# Altium integrated library TI Power Management Digital Power Control.IntLib: 6 symbols
Pins are listed as number, name and electrical type; pins without a type are passive.

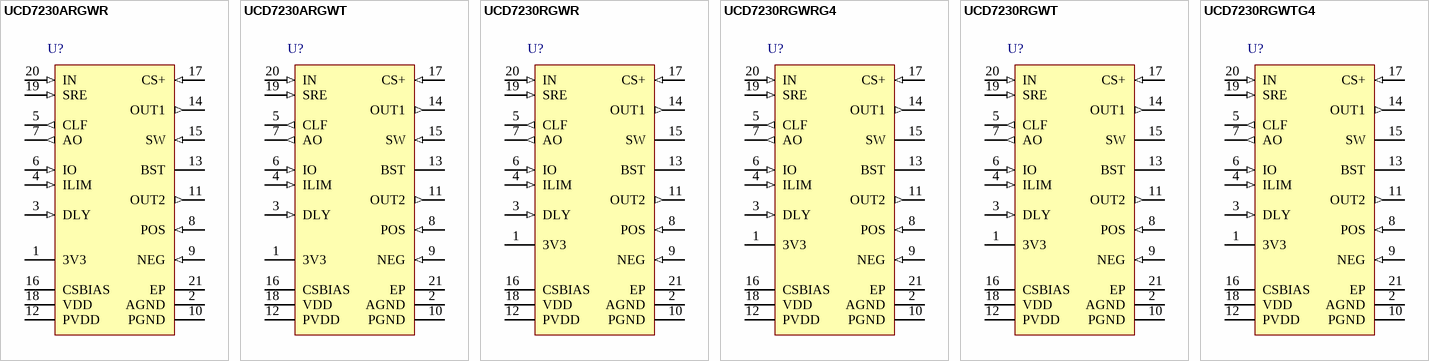
[diagram p0: symbols UCD7230ARGWR to UCD7230RGWTG4]

## UCD7230ARGWR
designator U?
Digital Power Compatible Synchronous Buck Driver, -40 to 105 degC, 20-pin VQFN (RGW), Green (RoHS & no Sb/Br); Manufacturer: Texas Instruments; PartNumber: UCD7230ARGWR; Driver Configuration: Dual; Input Threshold: CMOS, TTL; No. of Outputs: 1; Peak Output Current(A): 4; Prop Delay(ns): 30; SubFamily: Digital Power Control Driver; VCC(Max)(V): 15; VCC(Min)(V): 4.5; DatasheetVersion: SLUS995; PackageVersion: revC, Jul-2011; PackageReference: RGW20-3150X3150TP; PackageDescription: 20-Pin Plastic Quad Flat No-Lead, 5 x 5 mm Body, 0.65 mm Pitch, 3.15 x 3.15 mm Exposed Pad; Supplier 1: Digi-Key; Supplier Part Number 1: 296-25543-2-ND; Supplier 2: Digi-Key; Supplier Part Number 2: 296-25543-1-ND; Supplier 3: Digi-Key; Supplier Part Number 3: 296-25543-6-ND; Supplier 4: Newark; Supplier Part Number 4: 64R0821; Supplier 5: Mouser; Supplier Part Number 5: 595-UCD7230ARGWR; Mounting Technology: Surface Mount; Code_JEDEC: MO-220; ComponentLink1Description: Datasheet; ComponentLink1URL: http://www.ti.com/general/docs/lit/getliterature.tsp?genericPartNumber=UCD7230A&fileType=pdf
footprint RGW20-3150X3150TP (QFN, 20-Leads, Body 5x5mm, Pitch 0.65mm, Thermal Pad 3.15x3.15mm, TI Recommended)
pins: 1 3V3 (power) "Regulated 3.3-V rail. The onboard linear voltage regulator is capable of sourcing up to 10 mA of current. Bypass with 0.22-mF ceramic capacitance from this pin to analog ground, AGND.", 2 AGND (power) "Analog ground return.", 3 DLY (in) "Requires a resistor to AGND for setting the current sense blanking time for both the high-side and low-side current sense comparators. The value of this resistor in conjunction with the resistor in series with the CS+ pin (See Datasheet)", 4 ILIM (in) "Output current limit threshold set pin. The output current threshold is 1/10th of the value set on this pin. If left floating the voltage on this pin is 0.55 V. The voltage on the ILIM pin can range from 0.25 V to 1V to set (See Datasheet)", 5 CLF (out) "Current Limit Flag. The CLF signal is a 3.3-V digital output which is latched high after an over current event, triggered by either of the two current sense comparators and reset after two rising edges received on the IN pin.(See Datasheet)", 6 IO (in) "Sets the current sense linear amplifier “Zero” output level. The default value is 0.6 V which allows negative current measurement.", 7 AO (out) "Current sense linear amplifier output. The output voltage level on this pin represents the average output current. Any value below the level on the I0 pin represents negative output current.", 8 POS (in) "Non-inverting input of the output current sense amplifier and current limit comparator.", 9 NEG (in) "Inverting input of the output current sense amplifier and current limit comparator.", 10 PGND (power) "Power ground return. This pin should be connected close to the source of the low-side synchronous rectifier MOSFET.", 11 OUT2 (out) "The low-side high-current TrueDrive driver output. Drives the gate of the low-side synchronous MOSFET between PVDD and PGND.", 12 PVDD (power) "Supply pin provides power for the output drivers. It is not connected internally to the VDD supply rail. The bypass capacitor for this pin should be returned to PGND.", 13 BST "Floating OUT1 driver supply powered by an external Schottky diode from the PVDD pin during the synchronous MOSFET on time.", 14 OUT1 (out) "The high-side high-current TrueDrive driver output. Drives the gate of the high-side buck MOSFET between SW and BST.", 15 SW (in) "OUT1 gate drive return and square wave input to output inductor.", 16 CSBIAS (power) "Supply pin for the high-side current sense comparator.", 17 CS+ (in) "Non-inverting Input for the high side current sense comparator. A resistor connected between this pin and the high side MOSFET drain, in conjunction with the DLY resistor sets the high-side current limit threshold.", 18 VDD (power) "Supply input pin to power the internal circuitry except the driver outputs. The UCD7230 accepts an input range of 4.5 V to 15.5 V.", 19 SRE (in) "Synchronous Rectifier Enable. The SRE pin is a high impedance digital input capable of accepting 3.3-V logic level signals, used to disable the synchronous rectifier switch. The synchronous rectifier is disabled when this (See Datasheet)", 20 IN (in) "The IN pin is a high impedance digital input capable of accepting 3.3-V logic level signals up to 2 MHz. A Schmitt trigger input comparator desensitizes this pin from external noise.", 21 EP (power) "Thermal pad. Connect directly to AGND for thermal performance and EMI reduction."

## UCD7230ARGWT
designator U?
Digital Power Compatible Synchronous Buck Driver, -40 to 105 degC, 20-pin VQFN (RGW), Green (RoHS & no Sb/Br); Manufacturer: Texas Instruments; PartNumber: UCD7230ARGWT; Driver Configuration: Dual; Input Threshold: CMOS, TTL; No. of Outputs: 1; Peak Output Current(A): 4; Prop Delay(ns): 30; SubFamily: Digital Power Control Driver; VCC(Max)(V): 15; VCC(Min)(V): 4.5; DatasheetVersion: SLUS995; PackageVersion: revC, Jul-2011; PackageReference: RGW20-3150X3150TP; PackageDescription: 20-Pin Plastic Quad Flat No-Lead, 5 x 5 mm Body, 0.65 mm Pitch, 3.15 x 3.15 mm Exposed Pad; Supplier 1: Digi-Key; Supplier Part Number 1: UCD7230ARGWT-ND; Supplier 2: Newark; Supplier Part Number 2: 64R0822; Supplier 3: Mouser; Supplier Part Number 3: 595-UCD7230ARGWT; Mounting Technology: Surface Mount; Code_JEDEC: MO-220; ComponentLink1Description: Datasheet; ComponentLink1URL: http://www.ti.com/general/docs/lit/getliterature.tsp?genericPartNumber=UCD7230A&fileType=pdf
footprint RGW20-3150X3150TP (QFN, 20-Leads, Body 5x5mm, Pitch 0.65mm, Thermal Pad 3.15x3.15mm, TI Recommended)
pins: 1 3V3 (power) "Regulated 3.3-V rail. The onboard linear voltage regulator is capable of sourcing up to 10 mA of current. Bypass with 0.22-mF ceramic capacitance from this pin to analog ground, AGND.", 2 AGND (power) "Analog ground return.", 3 DLY (in) "Requires a resistor to AGND for setting the current sense blanking time for both the high-side and low-side current sense comparators. The value of this resistor in conjunction with the resistor in series with the CS+ pin (See Datasheet)", 4 ILIM (in) "Output current limit threshold set pin. The output current threshold is 1/10th of the value set on this pin. If left floating the voltage on this pin is 0.55 V. The voltage on the ILIM pin can range from 0.25 V to 1V to set (See Datasheet)", 5 CLF (out) "Current Limit Flag. The CLF signal is a 3.3-V digital output which is latched high after an over current event, triggered by either of the two current sense comparators and reset after two rising edges received on the IN pin.(See Datasheet)", 6 IO (in) "Sets the current sense linear amplifier “Zero” output level. The default value is 0.6 V which allows negative current measurement.", 7 AO (out) "Current sense linear amplifier output. The output voltage level on this pin represents the average output current. Any value below the level on the I0 pin represents negative output current.", 8 POS (in) "Non-inverting input of the output current sense amplifier and current limit comparator.", 9 NEG (in) "Inverting input of the output current sense amplifier and current limit comparator.", 10 PGND (power) "Power ground return. This pin should be connected close to the source of the low-side synchronous rectifier MOSFET.", 11 OUT2 (out) "The low-side high-current TrueDrive driver output. Drives the gate of the low-side synchronous MOSFET between PVDD and PGND.", 12 PVDD (power) "Supply pin provides power for the output drivers. It is not connected internally to the VDD supply rail. The bypass capacitor for this pin should be returned to PGND.", 13 BST "Floating OUT1 driver supply powered by an external Schottky diode from the PVDD pin during the synchronous MOSFET on time.", 14 OUT1 (out) "The high-side high-current TrueDrive driver output. Drives the gate of the high-side buck MOSFET between SW and BST.", 15 SW (in) "OUT1 gate drive return and square wave input to output inductor.", 16 CSBIAS (power) "Supply pin for the high-side current sense comparator.", 17 CS+ (in) "Non-inverting Input for the high side current sense comparator. A resistor connected between this pin and the high side MOSFET drain, in conjunction with the DLY resistor sets the high-side current limit threshold.", 18 VDD (power) "Supply input pin to power the internal circuitry except the driver outputs. The UCD7230 accepts an input range of 4.5 V to 15.5 V.", 19 SRE (in) "Synchronous Rectifier Enable. The SRE pin is a high impedance digital input capable of accepting 3.3-V logic level signals, used to disable the synchronous rectifier switch. The synchronous rectifier is disabled when this (See Datasheet)", 20 IN (in) "The IN pin is a high impedance digital input capable of accepting 3.3-V logic level signals up to 2 MHz. A Schmitt trigger input comparator desensitizes this pin from external noise.", 21 EP (power) "Thermal pad. Connect directly to AGND for thermal performance and EMI reduction."

## UCD7230RGWR
designator U?
Digital Power Compatible Synchronous Buck Driver, -40 to 105 degC, 20-pin VQFN (RGW), Green (RoHS & no Sb/Br); Manufacturer: Texas Instruments; PartNumber: UCD7230RGWR; Driver Configuration: Dual; Input Threshold: CMOS, TTL; No. of Outputs: 1; Peak Output Current(A): 4; Prop Delay(ns): 30; SubFamily: Digital Power Control Driver; VCC(Max)(V): 15; VCC(Min)(V): 4.5; DatasheetVersion: SLUS741D; PackageVersion: revC, Jul-2011; PackageReference: RGW20-3150X3150TP; PackageDescription: 20-Pin Plastic Quad Flat No-Lead, 5 x 5 mm Body, 0.65 mm Pitch, 3.15 x 3.15 mm Exposed Pad; Supplier 1: Digi-Key; Supplier Part Number 1: 296-21689-2-ND; Supplier 2: Digi-Key; Supplier Part Number 2: 296-21689-1-ND; Supplier 3: Digi-Key; Supplier Part Number 3: 296-21689-6-ND; Supplier 4: Newark; Supplier Part Number 4: 37M0105; Supplier 5: Mouser; Supplier Part Number 5: 595-UCD7230RGWR; Mounting Technology: Surface Mount; Code_JEDEC: MO-220; ComponentLink1Description: Datasheet; ComponentLink1URL: http://www.ti.com/general/docs/lit/getliterature.tsp?genericPartNumber=UCD7230&fileType=pdf
footprint RGW20-3150X3150TP (QFN, 20-Leads, Body 5x5mm, Pitch 0.65mm, Thermal Pad 3.15x3.15mm, TI Recommended)
pins: 1 3V3 (power) "Regulated 3.3-V rail. The onboard linear voltage regulator is capable of sourcing up to 10 mA of current. Bypass with 0.22-uf ceramic capacitance from this pin to analog ground, AGND.", 2 AGND (power) "Analog ground return.", 3 DLY (in) "Requires a resistor to AGND for setting the current sense blanking time for both the high-side and low-side current sense comparators. The value of this resistor in conjunction with the resistor in series with the CS+ pin (See Datasheet)", 4 ILIM (in) "Output current limit threshold set pin. The output current threshold is 1/10th of the value set on this pin. If left floating the voltage on this pin is 0.55 V. The voltage on the ILIM pin can range from 0.25 V to 1V to set (See Datasheet)", 5 CLF (out) "Current Limit Flag. The CLF signal is a 3.3-V digital output which is latched high after an over current event, triggered by either of the two current sense comparators and reset after two rising edges received on the IN pin.", 6 IO (in) "Sets the current sense linear amplifier "Zero" output level. The default value is 0.6 V which allows negative current measurement.", 7 AO (out) "Current sense linear amplifier output. The output voltage level on this pin represents the average output current. Any value below the level on the I0 pin represents negative output current.", 8 POS (in) "Non-inverting input of the output current sense amplifier and current limit comparator.", 9 NEG (in) "Inverting input of the output current sense amplifier and current limit comparator.", 10 PGND (power) "Power ground return. This pin should be connected close to the source of the low-side synchronous rectifier MOSFET.", 11 OUT2 (out) "The low-side high-current TrueDrive driver output. Drives the gate of the low-side synchronous MOSFET between PVDD and PGND.", 12 PVDD (power) "Supply pin provides power for the output drivers. It is not connected internally to the VDD supply rail. The bypass capacitor for this pin should be returned to PGND.", 13 BST "Floating OUT1 driver supply powered by an external Schottky diode from the PVDD pin during the synchronous MOSFET on time.", 14 OUT1 (out) "The high-side high-current TrueDrive driver output. Drives the gate of the high-side buck MOSFET between SW and BST.", 15 SW (power) "OUT1 gate drive return and square wave input to output inductor.", 16 CSBIAS (power) "Supply pin for the high-side current sense comparator.", 17 CS+ (in) "Non-inverting Input for the high side current sense comparator. A resistor connected between this pin and the high side MOSFET drain, in conjunction with the DLY resistor sets the high-side current limit threshold.", 18 VDD (power) "Supply input pin to power the internal circuitry except the driver outputs. The UCD7230 accepts an input range of 4.5 V to 15.5 V.", 19 SRE (in) "Synchronous Rectifier Enable. The SRE pin is a high impedance digital input capable of accepting 3.3-V logic level signals, used to disable the synchronous rectifier switch. The synchronous rectifier is disabled when this (See Datasheet)", 20 IN (in) "The IN pin is a high impedance digital input capable of accepting 3.3-V logic level signals up to 2 MHz. A Schmitt trigger input comparator desensitizes this pin from external noise.", 21 EP (power) "Exposed Thermal Pad"

## UCD7230RGWRG4
designator U?
Digital Power Compatible Synchronous Buck Driver, -40 to 105 degC, 20-pin VQFN (RGW), Green (RoHS & no Sb/Br); Manufacturer: Texas Instruments; PartNumber: UCD7230RGWRG4; Driver Configuration: Dual; Input Threshold: CMOS, TTL; No. of Outputs: 1; Peak Output Current(A): 4; Prop Delay(ns): 30; SubFamily: Digital Power Control Driver; VCC(Max)(V): 15; VCC(Min)(V): 4.5; DatasheetVersion: SLUS741D; PackageVersion: revC, Jul-2011; PackageReference: RGW20-3150X3150TP; PackageDescription: 20-Pin Plastic Quad Flat No-Lead, 5 x 5 mm Body, 0.65 mm Pitch, 3.15 x 3.15 mm Exposed Pad; Supplier 1: Digi-Key; Supplier Part Number 1: UCD7230RGWRG4-ND; Supplier 2: Newark; Supplier Part Number 2: 41M6416; Supplier 3: Mouser; Supplier Part Number 3: 595-UCD7230RGWRG4; Mounting Technology: Surface Mount; Code_JEDEC: MO-220; ComponentLink1Description: Datasheet; ComponentLink1URL: http://www.ti.com/general/docs/lit/getliterature.tsp?genericPartNumber=UCD7230&fileType=pdf
footprint RGW20-3150X3150TP (QFN, 20-Leads, Body 5x5mm, Pitch 0.65mm, Thermal Pad 3.15x3.15mm, TI Recommended)
pins: 1 3V3 (power) "Regulated 3.3-V rail. The onboard linear voltage regulator is capable of sourcing up to 10 mA of current. Bypass with 0.22-uf ceramic capacitance from this pin to analog ground, AGND.", 2 AGND (power) "Analog ground return.", 3 DLY (in) "Requires a resistor to AGND for setting the current sense blanking time for both the high-side and low-side current sense comparators. The value of this resistor in conjunction with the resistor in series with the CS+ pin (See Datasheet)", 4 ILIM (in) "Output current limit threshold set pin. The output current threshold is 1/10th of the value set on this pin. If left floating the voltage on this pin is 0.55 V. The voltage on the ILIM pin can range from 0.25 V to 1V to set (See Datasheet)", 5 CLF (out) "Current Limit Flag. The CLF signal is a 3.3-V digital output which is latched high after an over current event, triggered by either of the two current sense comparators and reset after two rising edges received on the IN pin.", 6 IO (in) "Sets the current sense linear amplifier "Zero" output level. The default value is 0.6 V which allows negative current measurement.", 7 AO (out) "Current sense linear amplifier output. The output voltage level on this pin represents the average output current. Any value below the level on the I0 pin represents negative output current.", 8 POS (in) "Non-inverting input of the output current sense amplifier and current limit comparator.", 9 NEG (in) "Inverting input of the output current sense amplifier and current limit comparator.", 10 PGND (power) "Power ground return. This pin should be connected close to the source of the low-side synchronous rectifier MOSFET.", 11 OUT2 (out) "The low-side high-current TrueDrive driver output. Drives the gate of the low-side synchronous MOSFET between PVDD and PGND.", 12 PVDD (power) "Supply pin provides power for the output drivers. It is not connected internally to the VDD supply rail. The bypass capacitor for this pin should be returned to PGND.", 13 BST "Floating OUT1 driver supply powered by an external Schottky diode from the PVDD pin during the synchronous MOSFET on time.", 14 OUT1 (out) "The high-side high-current TrueDrive driver output. Drives the gate of the high-side buck MOSFET between SW and BST.", 15 SW (power) "OUT1 gate drive return and square wave input to output inductor.", 16 CSBIAS (power) "Supply pin for the high-side current sense comparator.", 17 CS+ (in) "Non-inverting Input for the high side current sense comparator. A resistor connected between this pin and the high side MOSFET drain, in conjunction with the DLY resistor sets the high-side current limit threshold.", 18 VDD (power) "Supply input pin to power the internal circuitry except the driver outputs. The UCD7230 accepts an input range of 4.5 V to 15.5 V.", 19 SRE (in) "Synchronous Rectifier Enable. The SRE pin is a high impedance digital input capable of accepting 3.3-V logic level signals, used to disable the synchronous rectifier switch. The synchronous rectifier is disabled when this (See Datasheet)", 20 IN (in) "The IN pin is a high impedance digital input capable of accepting 3.3-V logic level signals up to 2 MHz. A Schmitt trigger input comparator desensitizes this pin from external noise.", 21 EP (power) "Exposed Thermal Pad"

## UCD7230RGWT
designator U?
Digital Power Compatible Synchronous Buck Driver, -40 to 105 degC, 20-pin VQFN (RGW), Green (RoHS & no Sb/Br); Manufacturer: Texas Instruments; PartNumber: UCD7230RGWT; Driver Configuration: Dual; Input Threshold: CMOS, TTL; No. of Outputs: 1; Peak Output Current(A): 4; Prop Delay(ns): 30; SubFamily: Digital Power Control Driver; VCC(Max)(V): 15; VCC(Min)(V): 4.5; DatasheetVersion: SLUS741D; PackageVersion: revC, Jul-2011; PackageReference: RGW20-3150X3150TP; PackageDescription: 20-Pin Plastic Quad Flat No-Lead, 5 x 5 mm Body, 0.65 mm Pitch, 3.15 x 3.15 mm Exposed Pad; Supplier 1: Digi-Key; Supplier Part Number 1: 296-28737-2-ND; Supplier 2: Digi-Key; Supplier Part Number 2: 296-28737-1-ND; Supplier 3: Digi-Key; Supplier Part Number 3: 296-28737-6-ND; Supplier 4: Newark; Supplier Part Number 4: 37M0106; Supplier 5: Mouser; Supplier Part Number 5: 595-UCD7230RGWT; Mounting Technology: Surface Mount; Code_JEDEC: MO-220; ComponentLink1Description: Datasheet; ComponentLink1URL: http://www.ti.com/general/docs/lit/getliterature.tsp?genericPartNumber=UCD7230&fileType=pdf
footprint RGW20-3150X3150TP (QFN, 20-Leads, Body 5x5mm, Pitch 0.65mm, Thermal Pad 3.15x3.15mm, TI Recommended)
pins: 1 3V3 (power) "Regulated 3.3-V rail. The onboard linear voltage regulator is capable of sourcing up to 10 mA of current. Bypass with 0.22-uf ceramic capacitance from this pin to analog ground, AGND.", 2 AGND (power) "Analog ground return.", 3 DLY (in) "Requires a resistor to AGND for setting the current sense blanking time for both the high-side and low-side current sense comparators. The value of this resistor in conjunction with the resistor in series with the CS+ pin (See Datasheet)", 4 ILIM (in) "Output current limit threshold set pin. The output current threshold is 1/10th of the value set on this pin. If left floating the voltage on this pin is 0.55 V. The voltage on the ILIM pin can range from 0.25 V to 1V to set (See Datasheet)", 5 CLF (out) "Current Limit Flag. The CLF signal is a 3.3-V digital output which is latched high after an over current event, triggered by either of the two current sense comparators and reset after two rising edges received on the IN pin.", 6 IO (in) "Sets the current sense linear amplifier "Zero" output level. The default value is 0.6 V which allows negative current measurement.", 7 AO (out) "Current sense linear amplifier output. The output voltage level on this pin represents the average output current. Any value below the level on the I0 pin represents negative output current.", 8 POS (in) "Non-inverting input of the output current sense amplifier and current limit comparator.", 9 NEG (in) "Inverting input of the output current sense amplifier and current limit comparator.", 10 PGND (power) "Power ground return. This pin should be connected close to the source of the low-side synchronous rectifier MOSFET.", 11 OUT2 (out) "The low-side high-current TrueDrive driver output. Drives the gate of the low-side synchronous MOSFET between PVDD and PGND.", 12 PVDD (power) "Supply pin provides power for the output drivers. It is not connected internally to the VDD supply rail. The bypass capacitor for this pin should be returned to PGND.", 13 BST "Floating OUT1 driver supply powered by an external Schottky diode from the PVDD pin during the synchronous MOSFET on time.", 14 OUT1 (out) "The high-side high-current TrueDrive driver output. Drives the gate of the high-side buck MOSFET between SW and BST.", 15 SW (power) "OUT1 gate drive return and square wave input to output inductor.", 16 CSBIAS (power) "Supply pin for the high-side current sense comparator.", 17 CS+ (in) "Non-inverting Input for the high side current sense comparator. A resistor connected between this pin and the high side MOSFET drain, in conjunction with the DLY resistor sets the high-side current limit threshold.", 18 VDD (power) "Supply input pin to power the internal circuitry except the driver outputs. The UCD7230 accepts an input range of 4.5 V to 15.5 V.", 19 SRE (in) "Synchronous Rectifier Enable. The SRE pin is a high impedance digital input capable of accepting 3.3-V logic level signals, used to disable the synchronous rectifier switch. The synchronous rectifier is disabled when this (See Datasheet)", 20 IN (in) "The IN pin is a high impedance digital input capable of accepting 3.3-V logic level signals up to 2 MHz. A Schmitt trigger input comparator desensitizes this pin from external noise.", 21 EP (power) "Exposed Thermal Pad"

## UCD7230RGWTG4
designator U?
Digital Power Compatible Synchronous Buck Driver, -40 to 105 degC, 20-pin VQFN (RGW), Green (RoHS & no Sb/Br); Manufacturer: Texas Instruments; PartNumber: UCD7230RGWTG4; Driver Configuration: Dual; Input Threshold: CMOS, TTL; No. of Outputs: 1; Peak Output Current(A): 4; Prop Delay(ns): 30; SubFamily: Digital Power Control Driver; VCC(Max)(V): 15; VCC(Min)(V): 4.5; DatasheetVersion: SLUS741D; PackageVersion: revC, Jul-2011; PackageReference: RGW20-3150X3150TP; PackageDescription: 20-Pin Plastic Quad Flat No-Lead, 5 x 5 mm Body, 0.65 mm Pitch, 3.15 x 3.15 mm Exposed Pad; Supplier 1: Digi-Key; Supplier Part Number 1: UCD7230RGWTG4-ND; Supplier 2: Newark; Supplier Part Number 2: 41M6417; Supplier 3: Mouser; Supplier Part Number 3: 595-UCD7230RGWTG4; Mounting Technology: Surface Mount; Code_JEDEC: MO-220; ComponentLink1Description: Datasheet; ComponentLink1URL: http://www.ti.com/general/docs/lit/getliterature.tsp?genericPartNumber=UCD7230&fileType=pdf
footprint RGW20-3150X3150TP (QFN, 20-Leads, Body 5x5mm, Pitch 0.65mm, Thermal Pad 3.15x3.15mm, TI Recommended)
pins: 1 3V3 (power) "Regulated 3.3-V rail. The onboard linear voltage regulator is capable of sourcing up to 10 mA of current. Bypass with 0.22-uf ceramic capacitance from this pin to analog ground, AGND.", 2 AGND (power) "Analog ground return.", 3 DLY (in) "Requires a resistor to AGND for setting the current sense blanking time for both the high-side and low-side current sense comparators. The value of this resistor in conjunction with the resistor in series with the CS+ pin (See Datasheet)", 4 ILIM (in) "Output current limit threshold set pin. The output current threshold is 1/10th of the value set on this pin. If left floating the voltage on this pin is 0.55 V. The voltage on the ILIM pin can range from 0.25 V to 1V to set (See Datasheet)", 5 CLF (out) "Current Limit Flag. The CLF signal is a 3.3-V digital output which is latched high after an over current event, triggered by either of the two current sense comparators and reset after two rising edges received on the IN pin.", 6 IO (in) "Sets the current sense linear amplifier "Zero" output level. The default value is 0.6 V which allows negative current measurement.", 7 AO (out) "Current sense linear amplifier output. The output voltage level on this pin represents the average output current. Any value below the level on the I0 pin represents negative output current.", 8 POS (in) "Non-inverting input of the output current sense amplifier and current limit comparator.", 9 NEG (in) "Inverting input of the output current sense amplifier and current limit comparator.", 10 PGND (power) "Power ground return. This pin should be connected close to the source of the low-side synchronous rectifier MOSFET.", 11 OUT2 (out) "The low-side high-current TrueDrive driver output. Drives the gate of the low-side synchronous MOSFET between PVDD and PGND.", 12 PVDD (power) "Supply pin provides power for the output drivers. It is not connected internally to the VDD supply rail. The bypass capacitor for this pin should be returned to PGND.", 13 BST "Floating OUT1 driver supply powered by an external Schottky diode from the PVDD pin during the synchronous MOSFET on time.", 14 OUT1 (out) "The high-side high-current TrueDrive driver output. Drives the gate of the high-side buck MOSFET between SW and BST.", 15 SW (power) "OUT1 gate drive return and square wave input to output inductor.", 16 CSBIAS (power) "Supply pin for the high-side current sense comparator.", 17 CS+ (in) "Non-inverting Input for the high side current sense comparator. A resistor connected between this pin and the high side MOSFET drain, in conjunction with the DLY resistor sets the high-side current limit threshold.", 18 VDD (power) "Supply input pin to power the internal circuitry except the driver outputs. The UCD7230 accepts an input range of 4.5 V to 15.5 V.", 19 SRE (in) "Synchronous Rectifier Enable. The SRE pin is a high impedance digital input capable of accepting 3.3-V logic level signals, used to disable the synchronous rectifier switch. The synchronous rectifier is disabled when this (See Datasheet)", 20 IN (in) "The IN pin is a high impedance digital input capable of accepting 3.3-V logic level signals up to 2 MHz. A Schmitt trigger input comparator desensitizes this pin from external noise.", 21 EP (power) "Exposed Thermal Pad"